# EAGLE library part MT8870 (library mitel-mt8870)
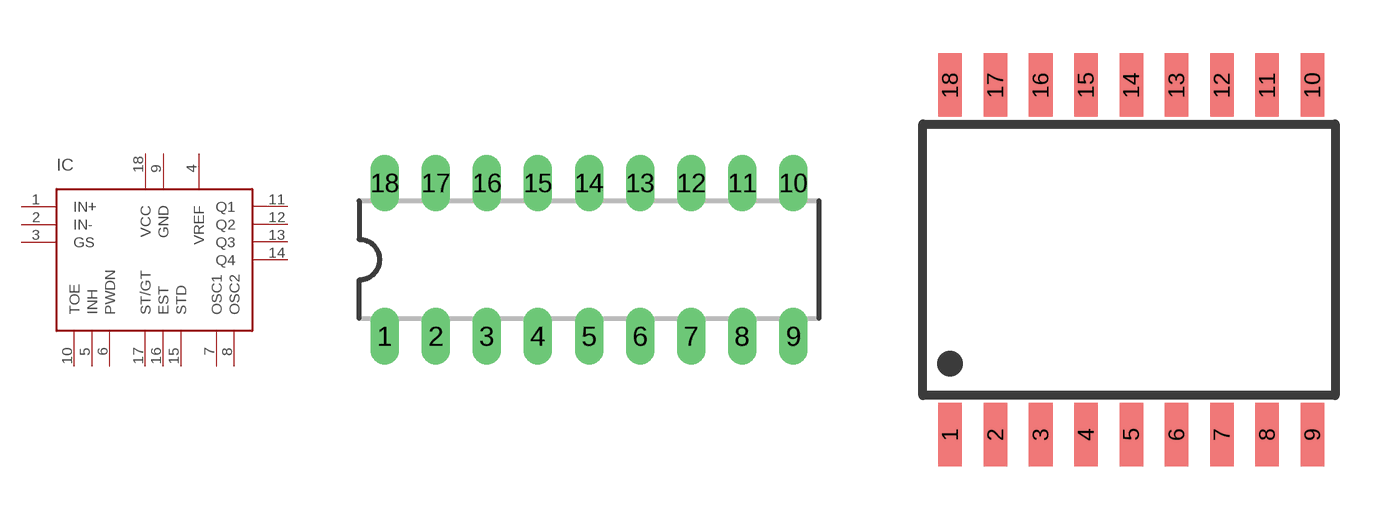
[diagram p0: symbol with the pads of DIL18; footprints DIL18, SO18]

Designator prefix IC

## MT8870DIL  [DIL18]
1  IN+
2  IN-
3  GS
4  VREF
5  INH
6  PWDN
7  OSC1
8  OSC2
9  GND  pwr
10  TOE
11  Q1  out
12  Q2  out
13  Q3  out
14  Q4  out
15  STD
16  EST
17  ST/GT
18  VCC  pwr

## MT8870SO14  [SO18]
Pads as for DIL18

## Footprint DIL18 (pad centres in mm)
Dual In Line Package
drill 0.9 long: 1 -10.16,-3.81; 2 -7.62,-3.81; 3 -5.08,-3.81; 4 -2.54,-3.81; 5 0,-3.81; 6 2.54,-3.81; 7 5.08,-3.81; 8 7.62,-3.81; 9 10.16,-3.81; 10 10.16,3.81; 11 7.62,3.81; 12 5.08,3.81; 13 2.54,3.81; 14 0,3.81; 15 -2.54,3.81; 16 -5.08,3.81; 17 -7.62,3.81; 18 -10.16,3.81

## Footprint SO18 (pad centres in mm)
smd 0.66 x 1.778: 1 -6.985,-4.902; 2 -5.715,-4.902; 3 -4.445,-4.902; 4 -3.175,-4.902; 5 -1.905,-4.902; 6 -0.635,-4.902; 7 0.635,-4.902; 8 1.905,-4.902; 9 3.175,-4.902; 10 3.175,4.902; 11 1.905,4.902; 12 0.635,4.902; 13 -0.635,4.902; 14 -1.905,4.902; 15 -3.175,4.902; 16 -4.445,4.902; 17 -5.715,4.902; 18 -6.985,4.902